# Altium schematic symbol library YD10-48S05.SchLib: 1 symbol
Pins are listed as number, name and electrical type; pins without a type are passive.

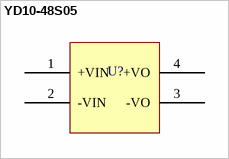
[diagram p0: symbol YD10-48S05]

## YD10-48S05
designator U?
DC-DC Converter
pins: 1 +VIN, 2 -VIN, 3 -VO, 4 +VO